# Altium footprint library Connectors.PcbLib: 94 footprints (part 4 of 6)
Each footprint in its own frame and in the unit in brackets; x right, y up, seen from the top. Pads: shape width x height; smd on the part's side, far side on the other; paste and mask are expansions set on the pad; w line width, h text height; cw(c..) or ccw(c..) is an arc to the next point about the centre after c.
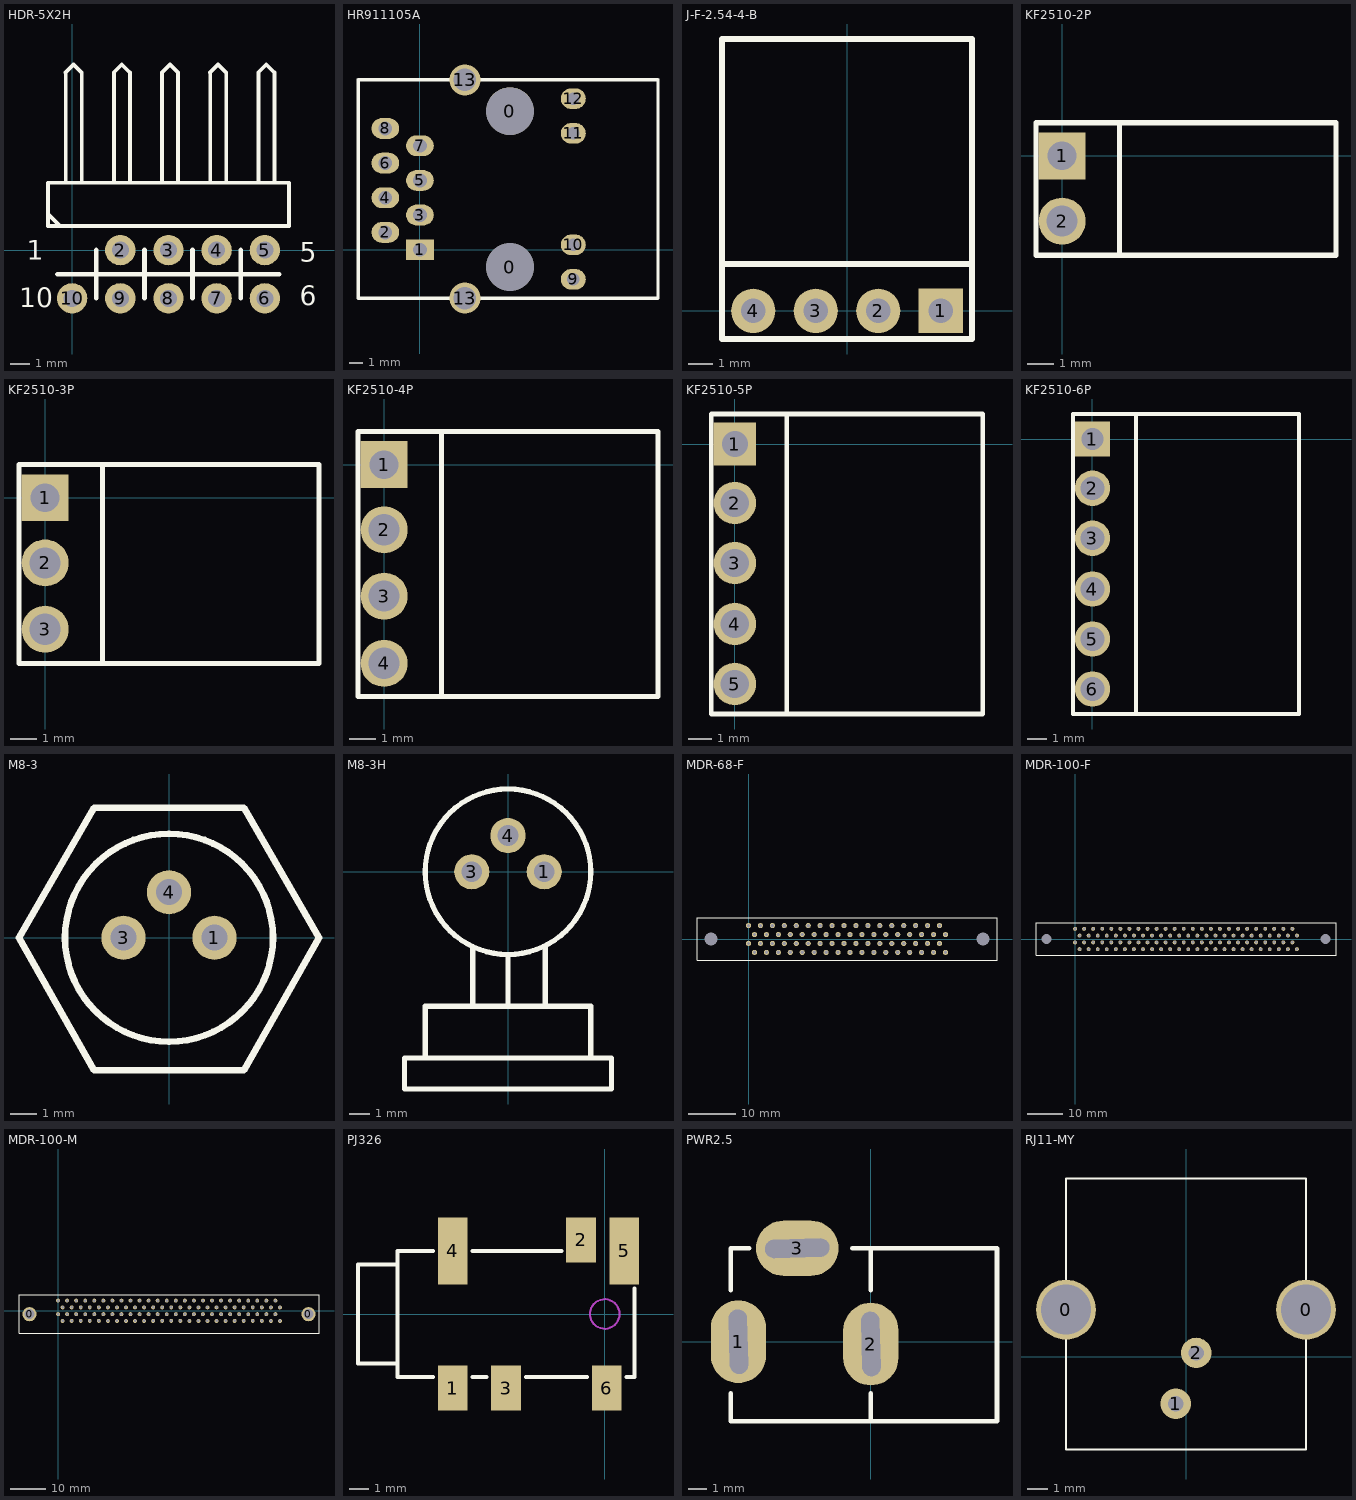
[diagram p3: the footprints below, top view; thin cyan lines are the x and y axes]

## HDR-5X2H [mm] "双排弯脚排针，5x2脚"
height 7.01
pads (9):
  round 1.6 hole 0.9: 2(2.54,0) 3(5.08,0) 4(7.62,0) 5(10.16,0) 6(10.16,-2.54) 7(7.62,-2.54) 8(5.08,-2.54) 9(2.54,-2.54) 10(0,-2.54)
Top Overlay:
  lines w0.2: -1.27,1.905 -0.635,1.27 ; -0.348,9.364 0.075,9.787 0.499,9.364 0.508,9.355 0.508,3.556 ; -0.339,3.556 -0.339,9.364 ; 2.192,9.364 2.615,9.787 3.039,9.364 ; 2.201,3.556 2.201,9.364 ; 3.048,3.556 3.048,9.364 ; 4.732,9.364 5.155,9.787 5.579,9.364 ; 4.741,3.556 4.741,9.364 ; 5.588,3.556 5.588,9.364 ; 7.272,9.364 7.695,9.787 8.119,9.364 ; 7.281,3.556 7.281,9.364 ; 8.128,3.556 8.128,9.364 ; 9.812,9.364 10.235,9.787 10.659,9.364 ; 9.821,3.556 9.821,9.364 ; 10.668,3.556 10.668,9.364 ; -1.27,1.27 -1.27,3.556 11.43,3.556 11.43,1.27 -1.27,1.27
  lines w0.254: -0.762,-1.27 10.922,-1.27 ; 1.27,-2.54 1.27,0 ; 3.81,-2.54 3.81,0 ; 6.35,-2.54 6.35,0 ; 8.89,-2.54 8.89,0
  text "6" at 12,-2.9 h1.02
  text "1" at -2.4,-0.5 h1.02
  text "5" at 12,-0.6 h1.02
  text "10" at -2.8,-3 h1.02
Bottom Overlay:
  lines w0.254: -0.762,-1.27 10.922,-1.27 ; 1.27,-2.54 1.27,0 ; 3.81,-2.54 3.81,0 ; 6.35,-2.54 6.35,0 ; 8.89,-2.54 8.89,0

## HR911105A [mil]
pads (16):
  round 137.8 hole 137.8: 0(260,-50) 0(260,400)
  rect 80x60 hole 40: 1(0,0)
  oval 80x60 hole 40: 2(-100,50) 3(0,100) 4(-100,150) 5(0,200) 6(-100,250) 7(0,300) 8(-100,350)
  oval 72x60 hole 36: 9(442.91,-85.63) 10(442.91,14) 11(442.91,335.87) 12(442.91,436)
  round 90 hole 65: 13(129.92,-139.76) 13(129.92,490.16)
Top Overlay:
  lines w10: -178.74,-140 -178.5,-139.76 ; -178.74,490 -178.58,490.16 ; -178.58,490.16 129.92,490.16 687.24,490.16 687.4,490 687.4,-140 687.17,-139.76 129.92,-139.76 -178.5,-139.76 ; -178.58,490.16 -178.58,-139.69 -178.5,-139.76

## J-F-2.54-4-B [mm] "SIP; 4 Lead RightAngle; Pitch 2.54mm;"
height 7
pads (4):
  rect 1.8x1.8 hole 0.99: 1(3.81,0)
  round 1.8 hole 0.99: 2(1.27,0) 3(-1.27,0) 4(-3.81,0)
Top Overlay:
  lines w0.254: -5.08,1.905 -5.08,11.049 5.08,11.049 5.08,1.905 ; -5.08,1.905 -5.08,-1.143 5.08,-1.143 5.08,1.905 ; -5.08,1.905 5.08,1.905

## KF2510-2P [mm]
pads (2):
  rect 1.8x1.8 hole 1.1: 1(0,0)
  round 1.8 hole 1.2: 2(0,-2.5)
Top Overlay:
  lines w0.2: 2.2,-3.81 2.2,1.27 ; -1,-3.81 -1,1.27 10.5,1.27 10.5,-3.81 -1,-3.81

## KF2510-3P [mm]
pads (3):
  rect 1.8x1.8 hole 1.1: 1(0,0)
  round 1.8 hole 1.2: 2(0,-2.5) 3(0,-5.04)
Top Overlay:
  lines w0.2: 2.2,-6.35 2.2,1.27 ; -1,-6.35 -1,1.27 10.5,1.27 10.5,-6.35 -1,-6.35

## KF2510-4P [mm]
pads (4):
  rect 1.8x1.8 hole 1.1: 1(0,0)
  round 1.8 hole 1.2: 2(0,-2.5) 3(0,-5.04) 4(0,-7.62)
Top Overlay:
  lines w0.2: 2.2,-8.89 2.2,1.27 ; -1,-8.89 10.5,-8.89 10.5,1.27 -1,1.27 -1,-8.89

## KF2510-5P [mm]
pads (5):
  rect 1.8x1.8 hole 1.1: 1(0,0)
  round 1.8 hole 1.2: 2(0,-2.5) 3(0,-5.04) 4(0,-7.62) 5(0,-10.16)
Top Overlay:
  lines w0.2: 2.2,-11.43 2.2,1.27 ; -1,-11.43 -1,1.27 10.5,1.27 10.5,-11.43 -1,-11.43

## KF2510-6P [mm]
pads (6):
  rect 1.8x1.8 hole 1.1: 1(0,0)
  round 1.8 hole 1.2: 2(0,-2.5) 3(0,-5.04) 4(0,-7.62) 5(0,-10.16) 6(0,-12.7)
Top Overlay:
  lines w0.2: 2.2,-13.97 2.2,1.27 ; -1,-13.97 -1,1.27 10.5,1.27 10.5,-13.97 -1,-13.97

## M8-3 [mm] "M8-3"
pads (3):
  round 1.7 hole 1: 1(1.75,0) 3(-1.75,0) 4(0,1.75)
Top Overlay:
  circle w0.254: c0,0 r4
  lines w0.254: -5.77,0 -2.88,-5.1 2.88,-5.1 5.77,0 2.88,5 -2.88,5 -5.77,0

## M8-3H [mm] "M8-3H"
pads (3):
  round 1.7 hole 1: 1(1.75,0) 3(-1.75,0) 4(0,1.75)
Top Overlay:
  circle w0.254: c0,0 r4
  lines w0.254: -4,-9 -4,-6.5 4,-6.5 4,-9 ; -1.7,-6.4 -1.7,-3.7 ; 0,-6.5 0,-4 ; 1.8,-6.4 1.8,-3.6 ; -5,-10.5 5,-10.5 5,-9 -5,-9 -5,-10.5

## MDR-68-F [mm] "MDR-68-F"
pads (70):
  round 1.1 hole 2.8: 0(-8.01,0) 0(49.92,0)
  round 1.1 hole 0.7: A1(0,2.85) A2(1.27,0.95) A3(2.54,2.85) A4(3.81,0.95) A5(5.08,2.85) A6(6.35,0.95) A7(7.62,2.85) A8(8.89,0.95) A9(10.16,2.85) A10(11.43,0.95) A11(12.7,2.85) A12(13.97,0.95) A13(15.24,2.85) A14(16.51,0.95) A15(17.78,2.85) A16(19.05,0.95) A17(20.32,2.85) A18(21.59,0.95) A19(22.86,2.85) A20(24.13,0.95) A21(25.4,2.85) A22(26.67,0.95) A23(27.94,2.85) A24(29.21,0.95) A25(30.48,2.85) A26(31.75,0.95) A27(33.02,2.85) A28(34.29,0.95) A29(35.56,2.85) A30(36.83,0.95) A31(38.1,2.85) A32(39.37,0.95) A33(40.64,2.85) A34(41.91,0.95) B1(0,-0.95) B2(1.27,-2.85) B3(2.54,-0.95) B4(3.81,-2.85) B5(5.08,-0.95) B6(6.35,-2.85) B7(7.62,-0.95) B8(8.89,-2.85) B9(10.16,-0.95) B10(11.43,-2.85) B11(12.7,-0.95) B12(13.97,-2.85) B13(15.24,-0.95) B14(16.51,-2.85) B15(17.78,-0.95) B16(19.05,-2.85) B17(20.32,-0.95) B18(21.59,-2.85) B19(22.86,-0.95) B20(24.13,-2.85) B21(25.4,-0.95) B22(26.67,-2.85) B23(27.94,-0.95) B24(29.21,-2.85) B25(30.48,-0.95) B26(31.75,-2.85) B27(33.02,-0.95) B28(34.29,-2.85) B29(35.56,-0.95) B30(36.83,-2.85) B31(38.1,-0.95) B32(39.37,-2.85) B33(40.64,-0.95) B34(41.91,-2.85)
Top Overlay:
  lines w0.254: -10.96,-4.55 52.87,-4.55 52.87,4.55 -10.96,4.55 -10.96,-4.55

## MDR-100-F [mm] "MDR-100-F"
pads (102):
  round 1.1 hole 2.8: 0(-8.01,0) 0(70.24,0)
  round 1.1 hole 0.7: A1(0,2.85) A2(1.27,0.95) A3(2.54,2.85) A4(3.81,0.95) A5(5.08,2.85) A6(6.35,0.95) A7(7.62,2.85) A8(8.89,0.95) A9(10.16,2.85) A10(11.43,0.95) A11(12.7,2.85) A12(13.97,0.95) A13(15.24,2.85) A14(16.51,0.95) A15(17.78,2.85) A16(19.05,0.95) A17(20.32,2.85) A18(21.59,0.95) A19(22.86,2.85) A20(24.13,0.95) A21(25.4,2.85) A22(26.67,0.95) A23(27.94,2.85) A24(29.21,0.95) A25(30.48,2.85) A26(31.75,0.95) A27(33.02,2.85) A28(34.29,0.95) A29(35.56,2.85) A30(36.83,0.95) A31(38.1,2.85) A32(39.37,0.95) A33(40.64,2.85) A34(41.91,0.95) A35(43.18,2.85) A36(44.45,0.95) A37(45.72,2.85) A38(46.99,0.95) A39(48.26,2.85) A40(49.53,0.95) A41(50.8,2.85) A42(52.07,0.95) A43(53.34,2.85) A44(54.61,0.95) A45(55.82,2.85) A46(57.15,0.95) A47(58.42,2.85) A48(59.69,0.95) A49(60.96,2.85) A50(62.23,0.95) B1(0,-0.95) B2(1.27,-2.85) B3(2.54,-0.95) B4(3.81,-2.85) B5(5.08,-0.95) B6(6.35,-2.85) B7(7.62,-0.95) B8(8.89,-2.85) B9(10.16,-0.95) B10(11.43,-2.85) B11(12.7,-0.95) B12(13.97,-2.85) B13(15.24,-0.95) B14(16.51,-2.85) B15(17.78,-0.95) B16(19.05,-2.85) B17(20.32,-0.95) B18(21.59,-2.85) B19(22.86,-0.95) B20(24.13,-2.85) B21(25.4,-0.95) B22(26.67,-2.85) B23(27.94,-0.95) B24(29.21,-2.85) B25(30.48,-0.95) B26(31.75,-2.85) B27(33.02,-0.95) B28(34.29,-2.85) B29(35.56,-0.95) B30(36.83,-2.85) B31(38.1,-0.95) B32(39.37,-2.85) B33(40.64,-0.95) B34(41.91,-2.85) B35(43.18,-0.95) B36(44.45,-2.85) B37(45.72,-0.95) B38(46.99,-2.85) B39(48.26,-0.95) B40(49.53,-2.85) B41(50.8,-0.95) B42(52.07,-2.85) B43(53.34,-0.95) B44(54.61,-2.85) B45(55.88,-0.95) B46(57.15,-2.85) B47(58.42,-0.95) B48(59.69,-2.85) B49(60.96,-0.95) B50(62.23,-2.85)
Top Overlay:
  lines w0.254: -10.96,-4.55 -10.96,4.55 73.19,4.55 73.19,-4.55 -10.96,-4.55

## MDR-100-M [mm] "MDR-100-M"
pads (102):
  round 4 hole 2.8: 0(-8.01,-0.95) 0(70.24,-0.95)
  round 1.1 hole 0.7: A1(62.23,0.95) A2(60.96,2.85) A3(59.69,0.95) A4(58.42,2.85) A5(57.15,0.95) A6(55.88,2.85) A7(54.61,0.95) A8(53.34,2.85) A9(52.07,0.95) A10(50.8,2.85) A11(49.53,0.95) A12(48.26,2.85) A13(46.99,0.95) A14(45.72,2.85) A15(44.45,0.95) A16(43.18,2.85) A17(41.91,0.95) A18(40.64,2.85) A19(39.37,0.95) A20(38.1,2.85) A21(36.83,0.95) A22(35.56,2.85) A23(34.29,0.95) A24(33.02,2.85) A25(31.75,0.95) A26(30.48,2.85) A27(29.21,0.95) A28(27.94,2.85) A29(26.67,0.95) A30(25.4,2.85) A31(24.13,0.95) A32(22.86,2.85) A33(21.59,0.95) A34(20.32,2.85) A35(19.05,0.95) A36(17.78,2.85) A37(16.51,0.95) A38(15.24,2.85) A39(13.97,0.95) A40(12.7,2.85) A41(11.43,0.95) A42(10.16,2.85) A43(8.89,0.95) A44(7.62,2.85) A45(6.35,0.95) A46(5.08,2.85) A47(3.81,0.95) A48(2.54,2.85) A49(1.27,0.95) A50(0,2.85) B1(62.23,-2.85) B2(60.96,-0.95) B3(59.69,-2.85) B4(58.42,-0.95) B5(57.15,-2.85) B6(55.88,-0.95) B7(54.61,-2.85) B8(53.34,-0.95) B9(52.07,-2.85) B10(50.8,-0.95) B11(49.53,-2.85) B12(48.26,-0.95) B13(46.99,-2.85) B14(45.72,-0.95) B15(44.45,-2.85) B16(43.18,-0.95) B17(41.91,-2.85) B18(40.64,-0.95) B19(39.37,-2.85) B20(38.1,-0.95) B21(36.83,-2.85) B22(35.56,-0.95) B23(34.29,-2.85) B24(33.02,-0.95) B25(31.75,-2.85) B26(30.48,-0.95) B27(29.21,-2.85) B28(27.94,-0.95) B29(26.67,-2.85) B30(25.4,-0.95) B31(24.13,-2.85) B32(22.86,-0.95) B33(21.59,-2.85) B34(20.32,-0.95) B35(19.05,-2.85) B36(17.78,-0.95) B37(16.51,-2.85) B38(15.24,-0.95) B39(13.97,-2.85) B40(12.7,-0.95) B41(11.43,-2.85) B42(10.16,-0.95) B43(8.89,-2.85) B44(7.62,-0.95) B45(6.35,-2.85) B46(5.08,-0.95) B47(3.81,-2.85) B48(2.54,-0.95) B49(1.27,-2.85) B50(0,-0.95)
Top Overlay:
  lines w0.254: -10.96,-6.35 73.19,-6.35 73.19,4.55 -10.96,4.55 -10.96,-6.35

## PJ326 [mm] "3.5mm"
pads (6):
  rect 1.5x2.3 smd: 1(-7.7,-3.75) 2(-1.2,3.75) 3(-5,-3.75) 6(0.1,-3.75)
  rect 1.5x3.4 smd: 4(-7.7,3.2) 5(1,3.2)
Top Overlay:
  lines w0.2: -10.6,2.5 -12.5,2.5 -12.5,-2.5 -10.5,-2.5 ; -8.7,-3.2 -10.5,-3.2 -10.5,3.2 -8.7,3.2 ; -6.7,-3.2 -6,-3.2 ; -6.7,3.2 -2.2,3.2 ; -4,-3.2 -0.9,-3.2 ; 1.1,-3.2 1.5,-3.2 1.5,1.3
Keep-Out Layer:
  circle w0.1: c0,0 r0.75
Mechanical 1:
  circle w0.1: c0,0 r0.75

## PWR2.5 [mm]
pads (3):
  oval 3x4.5 hole 1 slot 3.5 at 91.5 deg: 1(-7.2,0) 2(0,-0.127)
  oval 4.5x3 hole 1 slot 3.5 at 1.5 deg: 3(-4,5.08)
Top Overlay:
  lines w0.254: -7.62,-2.794 -7.62,-4.318 0,-4.318 ; -7.62,2.794 -7.62,5.08 -6.604,5.08 ; -1.016,5.08 6.858,5.08 6.858,-4.318 0,-4.318 ; 0,-2.794 0,-4.318 ; 0,2.794 0,5.08

## RJ11-MY [mm] "RJ11"
pads (4):
  round 3 hole 2.5: 0(-6,2.35) 0(6,2.35)
  round 1.524 hole 0.762: 1(-0.51,-2.35) 2(0.51,0.19)
Top Overlay:
  lines w0.1: -6,-4.65 6,-4.65 6,8.92 -6,8.92 -6,-4.65